# EAGLE library part ESP32-SOLO-1 (library ESP32-SOLO-1)
WiFi Modules (802.11) SMD Module, ESP32-S0WD, 32Mbits SPI flash, UART mode, Source: Datasheet <https://www.espressif.com/sites/default/files/documentation/esp32-solo-1_datasheet_en.pdf>
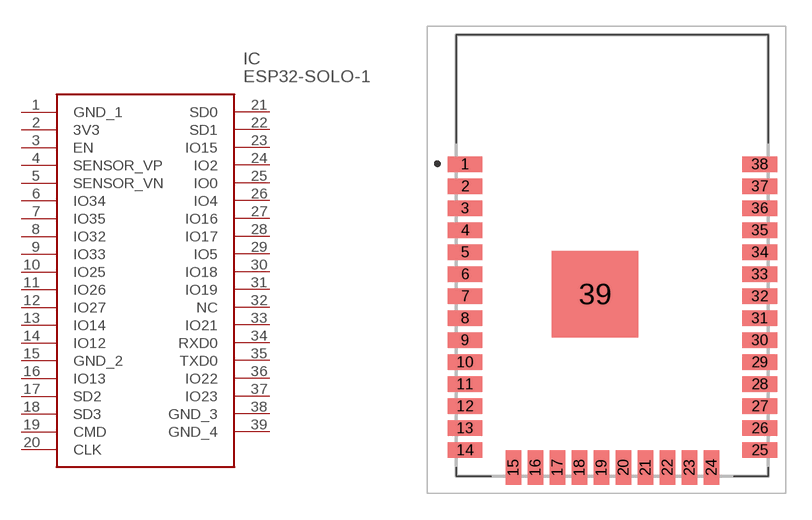
[diagram p0: symbol with the pads of ESP32SOLO1; footprint ESP32SOLO1]

Designator prefix IC

## ESP32-SOLO-1 (Description: WiFi Modules (802.11) SMD Module, ESP32-S0WD, 32Mbits SPI flash, UART mode,; Height: mm; Manufacturer_Name: Espressif Systems; Manufacturer_Part_Number: ESP32-SOLO-1; Mouser_Part_Number: 356-ESP32-SOLO-1; Mouser_Price-Stock: https://www.mouser.co.uk/ProductDetail/Espressif-Systems/ESP32-SOLO-1?qs=w%2Fv1CP2dgqpIFRWX9FvikA%3D%3D)  [ESP32SOLO1]
1  GND_1
2  3V3
3  EN
4  SENSOR_VP
5  SENSOR_VN
6  IO34
7  IO35
8  IO32
9  IO33
10  IO25
11  IO26
12  IO27
13  IO14
14  IO12
15  GND_2
16  IO13
17  SD2
18  SD3
19  CMD
20  CLK
21  SD0
22  SD1
23  IO15
24  IO2
25  IO0
26  IO4
27  IO16
28  IO17
29  IO5
30  IO18
31  IO19
32  NC  nc
33  IO21
34  RXD0
35  TXD0
36  IO22
37  IO23
38  GND_3
39  GND_4

## Footprint ESP32SOLO1 (pad centres in mm)
ESP32-WROVER-I
smd 2 x 0.9: 1 -8.5,5.51; 2 -8.5,4.24; 3 -8.5,2.97; 4 -8.5,1.7; 5 -8.5,0.43; 6 -8.5,-0.84; 7 -8.5,-2.11; 8 -8.5,-3.38; 9 -8.5,-4.65; 10 -8.5,-5.92; 11 -8.5,-7.19; 12 -8.5,-8.46; 13 -8.5,-9.73; 14 -8.5,-11; 25 8.5,-11; 26 8.5,-9.73; 27 8.5,-8.46; 28 8.5,-7.19; 29 8.5,-5.92; 30 8.5,-4.65; 31 8.5,-3.38; 32 8.5,-2.11; 33 8.5,-0.84; 34 8.5,0.43; 35 8.5,1.7; 36 8.5,2.97; 37 8.5,4.24; 38 8.5,5.51
smd 0.9 x 2: 15 -5.715,-12; 16 -4.445,-12; 17 -3.175,-12; 18 -1.905,-12; 19 -0.635,-12; 20 0.635,-12; 21 1.905,-12; 22 3.175,-12; 23 4.445,-12; 24 5.715,-12
smd 5 x 5: 39 -1,-1.99